# Altium schematic symbol library STM32L433CCU6.SchLib: 1 symbol
Pins are listed as number, name and electrical type; pins without a type are passive.

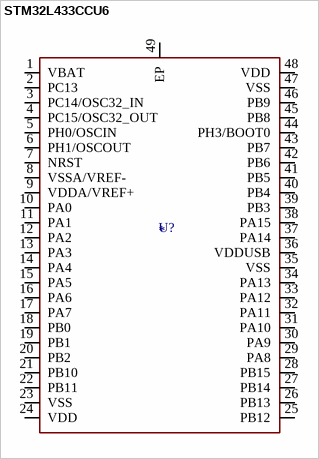
[diagram p0: symbol STM32L433CCU6]

## STM32L433CCU6
designator U?  (value not drawn)
ST Microelectronics. -40C~+85C 1.71V~3.6V 12bit 12bit 256KB 32 Bit 38 64KB 80MHz ARM Cortex-M4 Built-in FLASH UFQFPN-48(7x7) Microcontrollers (MCU/MPU/SOC) ROHS; Component Type: Integrated Circuits; Design Item ID: STM32L433CCU6; JLCPCB Part #: C1341450; Manufacturer Part Number: STM32L433CCU6; Manufacturer: STMicroelectronics; Value: *
footprint STM32L433CCU6 (UFQFPN-48_L7.0-W7.0-P0.50-BL-EP5.6)
pins: 1 VBAT, 2 PC13, 3 PC14/OSC32_IN, 4 PC15/OSC32_OUT, 5 PH0/OSCIN, 6 PH1/OSCOUT, 7 NRST, 8 VSSA/VREF-, 9 VDDA/VREF+, 10 PA0, 11 PA1, 12 PA2, 13 PA3, 14 PA4, 15 PA5, 16 PA6, 17 PA7, 18 PB0, 19 PB1, 20 PB2, 21 PB10, 22 PB11, 23 VSS, 24 VDD, 25 PB12, 26 PB13, 27 PB14, 28 PB15, 29 PA8, 30 PA9, 31 PA10, 32 PA11, 33 PA12, 34 PA13, 35 VSS, 36 VDDUSB, 37 PA14, 38 PA15, 39 PB3, 40 PB4, 41 PB5, 42 PB6, 43 PB7, 44 PH3/BOOT0, 45 PB8, 46 PB9, 47 VSS, 48 VDD, 49 EP